# EAGLE library part TPS62177 (library TI)
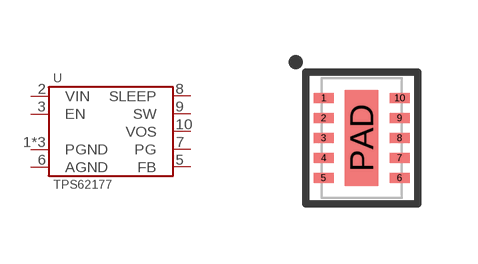
[diagram p38: symbol with the pads of WSON-10-3X2; footprint WSON-10-3X2]

Designator prefix U

## TPS62177DQCR  [WSON-10-3X2]
1  PGND
2  VIN
3  EN
4  PGND
5  FB
6  AGND
7  PG
8  SLEEP
9  SW
10  VOS
PAD  PGND

## Footprint WSON-10-3X2 (pad centres in mm)
smd 0.5 x 0.25: 1 -0.95,1; 2 -0.95,0.5; 3 -0.95,0; 4 -0.95,-0.5; 5 -0.95,-1; 6 0.95,-1; 7 0.95,-0.5; 8 0.95,0; 9 0.95,0.5; 10 0.95,1
smd 0.84 x 2.4: PAD 0,0